# EAGLE library part BQ24074RGTR (library BQ24074RGTR)
USB-Friendly Li-Ion Battery Charger and Power-Path Management IC, 10.5V OVP Source: Datasheet <http://www.ti.com/lit/ds/symlink/bq24074.pdf>
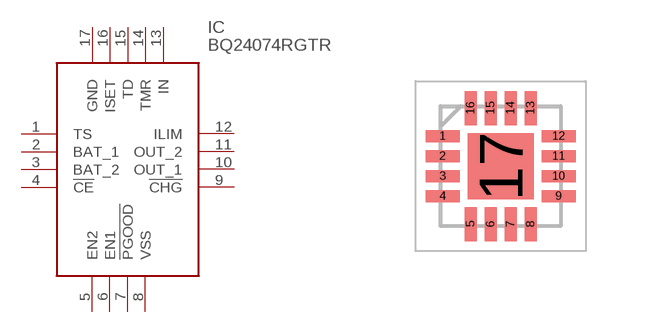
[diagram p0: symbol with the pads of QFN50P300X300X100-17N; footprint QFN50P300X300X100-17N]

Designator prefix IC

## BQ24074RGTR (Arrow_Part_Number: BQ24074RGTR; Arrow_Price-Stock: https://www.arrow.com/en/products/bq24074rgtr/texas-instruments?region=nac; Description: USB-Friendly Li-Ion Battery Charger and Power-Path Management IC, 10.5V OVP; Height: 1mm; Manufacturer_Name: Texas Instruments; Manufacturer_Part_Number: BQ24074RGTR; Mouser_Part_Number: 595-BQ24074RGTR; Mouser_Price-Stock: https://www.mouser.co.uk/ProductDetail/Texas-Instruments/BQ24074RGTR?qs=ZV%2Fxhq4oszp2Nll7fIx5wg%3D%3D)  [QFN50P300X300X100-17N]
1  TS
2  BAT_1
3  BAT_2
4  !CE
5  EN2
6  EN1
7  !PGOOD
8  VSS
9  !CHG
10  OUT_1
11  OUT_2
12  ILIM
13  IN
14  TMR
15  TD
16  ISET
17  GND

## Footprint QFN50P300X300X100-17N (pad centres in mm)
BQ24074RGTR-1
smd 0.85 x 0.3: 1 -1.45,0.75; 2 -1.45,0.25; 3 -1.45,-0.25; 4 -1.45,-0.75; 9 1.45,-0.75; 10 1.45,-0.25; 11 1.45,0.25; 12 1.45,0.75
smd 0.3 x 0.85: 5 -0.75,-1.45; 6 -0.25,-1.45; 7 0.25,-1.45; 8 0.75,-1.45; 13 0.75,1.45; 14 0.25,1.45; 15 -0.25,1.45; 16 -0.75,1.45
smd 1.65 x 1.65: 17 0,0